# Altium footprint library OMRON Switch DIP.PcbLib: 2 footprints
Each footprint in its own frame and in the unit in brackets; x right, y up, seen from the top. Pads: shape width x height; smd on the part's side, far side on the other; paste and mask are expansions set on the pad; w line width, h text height; cw(c..) or ccw(c..) is an arc to the next point about the centre after c.
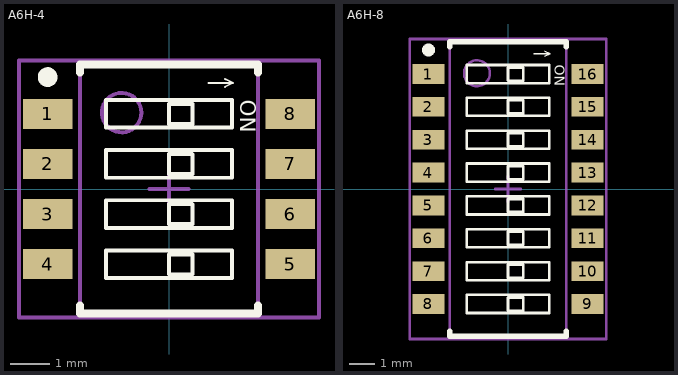
[diagram p0: the footprints below, top view; thin cyan lines are the x and y axes]

## A6H-4 [mm] "Slide DIP Switch; SM; 8 Leads; Body 6.31x4.5mm (LxW typ); Pitch 1.27mm"
height 1.49
pads (8):
  rect 1.25x0.76 smd: 1(-3.075,1.905) 2(-3.075,0.635) 3(-3.075,-0.635) 4(-3.075,-1.905) 5(3.075,-1.905) 6(3.075,-0.635) 7(3.075,0.635) 8(3.075,1.905)
Top Overlay:
  circle w0.25: c-3.075,2.835 r0.125
  lines w0.05: 1.005,2.69 1.625,2.69 ; 1.415,2.59 1.625,2.69 ; 1.415,2.79 1.625,2.69
  lines w0.1: 0,-2.155 0,-1.655 0.585,-1.655 ; 0,-0.885 0,-0.385 0.585,-0.385 ; 0,0.385 0,0.885 0.585,0.885 ; 0,1.655 0,2.155 0.585,2.155 ; 0.005,-2.16 0.59,-2.16 0.59,-1.66 ; 0.005,-0.89 0.59,-0.89 0.59,-0.39 ; 0.005,0.38 0.59,0.38 0.59,0.88 ; 0.005,1.65 0.59,1.65 0.59,2.15 ; -1.6,-2.255 -1.6,-1.555 1.6,-1.555 1.6,-2.255 -1.6,-2.255 ; -1.6,-0.985 1.6,-0.985 1.6,-0.285 -1.6,-0.285 -1.6,-0.985 ; -1.6,0.285 1.6,0.285 1.6,0.985 -1.6,0.985 -1.6,0.285 ; -1.6,1.555 1.6,1.555 1.6,2.255 -1.6,2.255 -1.6,1.555
  lines w0.2: -2.25,-2.955 -2.25,-3.155 2.25,-3.155 2.25,-2.955 ; -2.25,2.955 -2.25,3.155 2.25,3.155 2.25,2.955
  text "ON" at 1.8,2.26 h0.4
Mechanical 13:
  circle w0.1: c-1.2,1.935 r0.5
  lines w0.1: -2.25,-3.155 2.25,-3.155 2.25,3.155 -2.25,3.155 -2.25,-3.155
Mechanical 15:
  lines w0.1: -0.5,0 0.5,0 ; 0,-0.5 0,0.5 ; -3.8,-3.26 -3.8,3.26 3.8,3.26 3.8,-3.26 -3.8,-3.26
3D body: height 1.49, standoff 0, extent -2.249,-3.154 2.249,3.154

## A6H-8 [mm] "Slide DIP Switch; SM; 16 Leads; Body 11.39x4.5mm (LxW typ); Pitch 1.27mm"
height 1.49
pads (16):
  rect 1.25x0.76 smd: 1(-3.075,4.445) 2(-3.075,3.175) 3(-3.075,1.905) 4(-3.075,0.635) 5(-3.075,-0.635) 6(-3.075,-1.905) 7(-3.075,-3.175) 8(-3.075,-4.445) 9(3.075,-4.445) 10(3.075,-3.175) 11(3.075,-1.905) 12(3.075,-0.635) 13(3.075,0.635) 14(3.075,1.905) 15(3.075,3.175) 16(3.075,4.445)
Top Overlay:
  circle w0.25: c-3.075,5.375 r0.125
  lines w0.05: 1.005,5.23 1.625,5.23 ; 1.415,5.13 1.625,5.23 ; 1.415,5.33 1.625,5.23
  lines w0.1: 0,-4.695 0,-4.195 0.585,-4.195 ; 0,-3.425 0,-2.925 0.585,-2.925 ; 0,-2.155 0,-1.655 0.585,-1.655 ; 0,-0.885 0,-0.385 0.585,-0.385 ; 0,0.385 0,0.885 0.585,0.885 ; 0,1.655 0,2.155 0.585,2.155 ; 0,2.925 0,3.425 0.585,3.425 ; 0,4.195 0,4.695 0.585,4.695 ; 0.005,-4.7 0.59,-4.7 0.59,-4.2 ; 0.005,-3.43 0.59,-3.43 0.59,-2.93 ; 0.005,-2.16 0.59,-2.16 0.59,-1.66 ; 0.005,-0.89 0.59,-0.89 0.59,-0.39 ; 0.005,0.38 0.59,0.38 0.59,0.88 ; 0.005,1.65 0.59,1.65 0.59,2.15 ; 0.005,2.92 0.59,2.92 0.59,3.42 ; 0.005,4.19 0.59,4.19 0.59,4.69 ; -1.6,-4.795 1.6,-4.795 1.6,-4.095 -1.6,-4.095 -1.6,-4.795 ; -1.6,-3.525 1.6,-3.525 1.6,-2.825 -1.6,-2.825 -1.6,-3.525 ; -1.6,-2.255 1.6,-2.255 1.6,-1.555 -1.6,-1.555 -1.6,-2.255 ; -1.6,-0.985 1.6,-0.985 1.6,-0.285 -1.6,-0.285 -1.6,-0.985 ; -1.6,0.285 -1.6,0.985 1.6,0.985 1.6,0.285 -1.6,0.285 ; -1.6,1.555 1.6,1.555 1.6,2.255 -1.6,2.255 -1.6,1.555 ; -1.6,2.825 1.6,2.825 1.6,3.525 -1.6,3.525 -1.6,2.825 ; -1.6,4.095 1.6,4.095 1.6,4.795 -1.6,4.795 -1.6,4.095
  lines w0.2: -2.25,-5.495 -2.25,-5.695 2.25,-5.695 2.25,-5.495 ; -2.25,5.495 -2.25,5.695 2.25,5.695 2.25,5.495
  text "ON" at 1.8,4.8 h0.4
Mechanical 13:
  circle w0.1: c-1.2,4.475 r0.5
  lines w0.1: -2.25,-5.695 -2.25,5.695 2.25,5.695 2.25,-5.695 -2.25,-5.695
Mechanical 15:
  lines w0.1: -0.5,0 0.5,0 ; 0,-0.5 0,0.5 ; -3.8,-5.8 -3.8,5.8 3.8,5.8 3.8,-5.8 -3.8,-5.8
3D body: height 1.49, standoff 0.1, extent -2.249,-5.694 2.249,5.694